# EAGLE library part LM2678T-ADJ (library LM2678T-ADJ)
Check availability <https://pricing.snapeda.com/parts/LM2678T-ADJ/Texas%20Instruments/view-part?ref=eda>
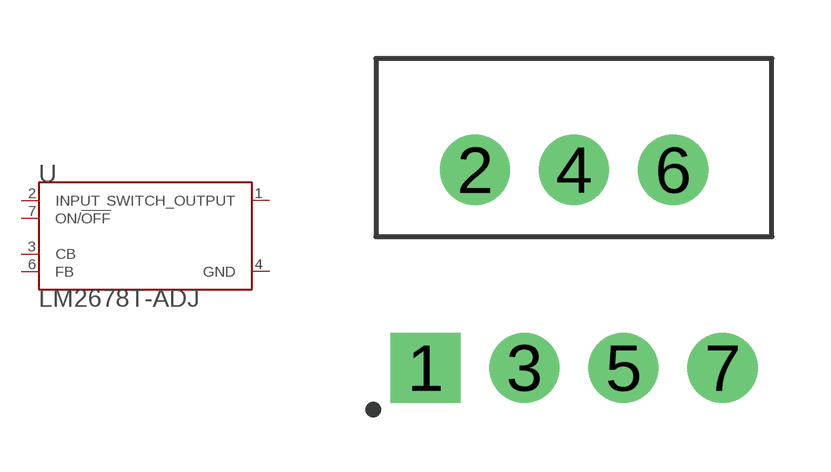
[diagram p0: symbol with the pads of TO127P1041X469X2199-7N; footprint TO127P1041X469X2199-7N]

Designator prefix U

## LM2678T-ADJ (Availability: In Stock; Check_prices: https://www.snapeda.com/parts/LM2678T-ADJ/Texas+Instruments/view-part/?ref=eda; Description: 8V to 40V, 5A SIMPLE SWITCHER buck converter with high efficiency 7-TO-220 -40 to 125; MF: Texas Instruments; MP: LM2678T-ADJ; Package: TO-220-7 Texas Instruments; Price: None; SnapEDA_Link: https://www.snapeda.com/parts/LM2678T-ADJ/Texas+Instruments/view-part/?ref=snap)  [TO127P1041X469X2199-7N]
1  SWITCH_OUTPUT  out
2  INPUT  in
3  CB  in
4  GND  pwr
6  FB  in
7  ON/!OFF  in

## Footprint TO127P1041X469X2199-7N (pad centres in mm)
drill 1.2 square: 1 -3.81,-5.08
drill 1.2: 2 -2.54,0; 3 -1.27,-5.08; 4 0,0; 5 1.27,-5.08; 6 2.54,0; 7 3.81,-5.08